# Altium integrated library TI Power Management Switching Regulator Charge Pump (Inductorless).IntLib: 239 symbols (part 1 of 14)
Pins are listed as number, name and electrical type; pins without a type are passive.

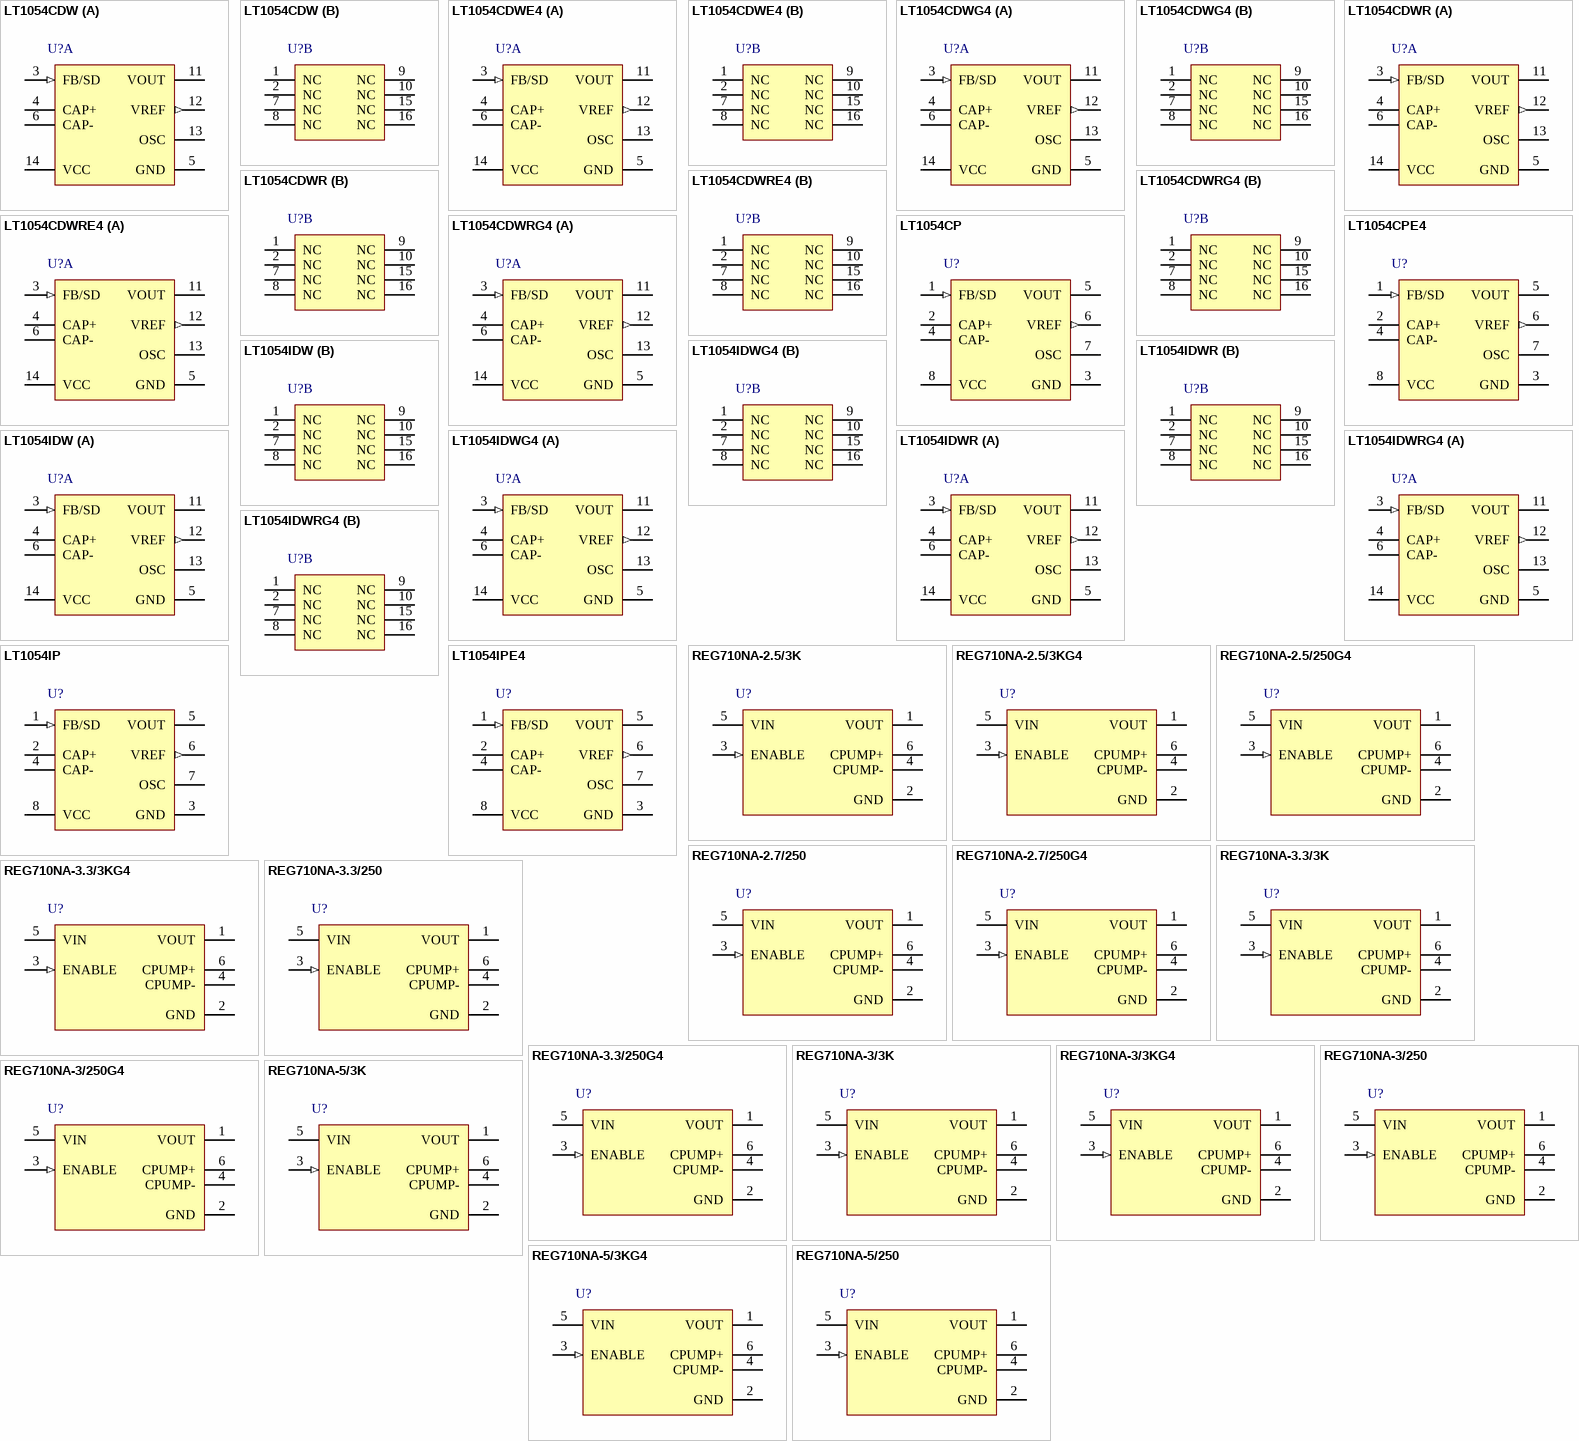
[diagram p0: symbols LT1054CDW to REG710NA-5/250]

## LT1054CDW
designator U?
-5 V, Buck / Boost Charge Pump, 100 mA, 3.5 to 15 V Input, 0 to 70 degC, 16-pin SOIC (DW16), Green (RoHS & no Sb/Br); Manufacturer: Texas Instruments; PartNumber: LT1054CDW; Iout(Max)(A): 0.1; Iq(Typ)(mA): 2.5; Switching Frequency(Max)(kHz): 35; Vin(Max)(V): 15; Vin(Min)(V): 3.5; Vout(Max)(V): -5.2; Vout(Min)(V): -4.7; DatasheetVersion: SLVS033F; PackageVersion: 4040000-2/G; PackageReference: DW16; PackageDescription: 16-Pin Plastic Small Outline, Body 10.30 x 7.50 mm, Pitch 1.27 mm; Supplier 1: Digi-Key; Supplier Part Number 1: 296-9590-5-ND; Supplier 2: Newark; Supplier Part Number 2: 34K7848; Supplier 3: Mouser; Supplier Part Number 3: 595-LT1054CDW; Eco-Plan: Green (RoHS & no Sb/Br); Preset Vout(V): -5; Topology: Buck/Boost; Mounting Technology: Surface Mount; Code_JEDEC: MS-013; ComponentLink1Description: Manufacturer URL; ComponentLink1URL: http://www.ti.com/; ComponentLink2Description: Datasheet; ComponentLink2URL: http://www.ti.com/general/docs/lit/getliterature.tsp?genericPartNumber=LT1054&fileType=pdf; ComponentLink3Description: Package Specification; ComponentLink3URL: http://www.ti.com/litv/pdf/msoi003g
footprint TI-DW16_N (SOIC, 16-Leads, Body 10.3x7.5mm, Pitch 1.27mm, IPC Medium Density)
footprint TI-DW16_L (SOIC, 16-Leads, Body 10.3x7.5mm, Pitch 1.27mm, IPC High Density)
footprint TI-DW16_M (SOIC, 16-Leads, Body 10.3x7.5mm, Pitch 1.27mm, IPC Low Density)
part A pins: 3 FB/SD (in), 4 CAP+, 5 GND (power), 6 CAP-, 11 VOUT (power), 12 VREF (out), 13 OSC, 14 VCC (power)
part B pins: 1 NC, 2 NC, 7 NC, 8 NC, 9 NC, 10 NC, 15 NC, 16 NC

## LT1054CDWE4
designator U?
-5 V, Buck / Boost Charge Pump, 100 mA, 3.5 to 15 V Input, 0 to 70 degC, 16-pin SOIC (DW16), Green (RoHS & no Sb/Br); Manufacturer: Texas Instruments; PartNumber: LT1054CDWE4; Iout(Max)(A): 0.1; Iq(Typ)(mA): 2.5; Switching Frequency(Max)(kHz): 35; Vin(Max)(V): 15; Vin(Min)(V): 3.5; Vout(Max)(V): -5.2; Vout(Min)(V): -4.7; DatasheetVersion: SLVS033F; PackageVersion: 4040000-2/G; PackageReference: DW16; PackageDescription: 16-Pin Plastic Small Outline, Body 10.30 x 7.50 mm, Pitch 1.27 mm; Supplier 1: Digi-Key; Supplier Part Number 1: LT1054CDWE4-ND; Supplier 2: Newark; Supplier Part Number 2: 37K0537; Supplier 3: Mouser; Supplier Part Number 3: 595-LT1054CDWE4; Eco-Plan: Green (RoHS & no Sb/Br); Preset Vout(V): -5; Topology: Buck/Boost; Mounting Technology: Surface Mount; Code_JEDEC: MS-013; ComponentLink1Description: Manufacturer URL; ComponentLink1URL: http://www.ti.com/; ComponentLink2Description: Datasheet; ComponentLink2URL: http://www.ti.com/general/docs/lit/getliterature.tsp?genericPartNumber=LT1054&fileType=pdf; ComponentLink3Description: Package Specification; ComponentLink3URL: http://www.ti.com/litv/pdf/msoi003g
footprint TI-DW16_N (SOIC, 16-Leads, Body 10.3x7.5mm, Pitch 1.27mm, IPC Medium Density)
footprint TI-DW16_L (SOIC, 16-Leads, Body 10.3x7.5mm, Pitch 1.27mm, IPC High Density)
footprint TI-DW16_M (SOIC, 16-Leads, Body 10.3x7.5mm, Pitch 1.27mm, IPC Low Density)
part A pins: 3 FB/SD (in), 4 CAP+, 5 GND (power), 6 CAP-, 11 VOUT (power), 12 VREF (out), 13 OSC, 14 VCC (power)
part B pins: 1 NC, 2 NC, 7 NC, 8 NC, 9 NC, 10 NC, 15 NC, 16 NC

## LT1054CDWG4
designator U?
-5 V, Buck / Boost Charge Pump, 100 mA, 3.5 to 15 V Input, 0 to 70 degC, 16-pin SOIC (DW16), Green (RoHS & no Sb/Br); Manufacturer: Texas Instruments; PartNumber: LT1054CDWG4; Iout(Max)(A): 0.1; Iq(Typ)(mA): 2.5; Switching Frequency(Max)(kHz): 35; Vin(Max)(V): 15; Vin(Min)(V): 3.5; Vout(Max)(V): -5.2; Vout(Min)(V): -4.7; DatasheetVersion: SLVS033F; PackageVersion: 4040000-2/G; PackageReference: DW16; PackageDescription: 16-Pin Plastic Small Outline, Body 10.30 x 7.50 mm, Pitch 1.27 mm; Supplier 1: Digi-Key; Supplier Part Number 1: LT1054CDWG4-ND; Supplier 2: Newark; Supplier Part Number 2: 45M8034; Supplier 3: Mouser; Supplier Part Number 3: 595-LT1054CDWG4; Eco-Plan: Green (RoHS & no Sb/Br); Preset Vout(V): -5; Topology: Buck/Boost; Mounting Technology: Surface Mount; Code_JEDEC: MS-013; ComponentLink1Description: Manufacturer URL; ComponentLink1URL: http://www.ti.com/; ComponentLink2Description: Datasheet; ComponentLink2URL: http://www.ti.com/general/docs/lit/getliterature.tsp?genericPartNumber=LT1054&fileType=pdf; ComponentLink3Description: Package Specification; ComponentLink3URL: http://www.ti.com/litv/pdf/msoi003g
footprint TI-DW16_N (SOIC, 16-Leads, Body 10.3x7.5mm, Pitch 1.27mm, IPC Medium Density)
footprint TI-DW16_L (SOIC, 16-Leads, Body 10.3x7.5mm, Pitch 1.27mm, IPC High Density)
footprint TI-DW16_M (SOIC, 16-Leads, Body 10.3x7.5mm, Pitch 1.27mm, IPC Low Density)
part A pins: 3 FB/SD (in), 4 CAP+, 5 GND (power), 6 CAP-, 11 VOUT (power), 12 VREF (out), 13 OSC, 14 VCC (power)
part B pins: 1 NC, 2 NC, 7 NC, 8 NC, 9 NC, 10 NC, 15 NC, 16 NC

## LT1054CDWR
designator U?
-5 V, Buck / Boost Charge Pump, 100 mA, 3.5 to 15 V Input, 0 to 70 degC, 16-pin SOIC (DW16), Green (RoHS & no Sb/Br); Manufacturer: Texas Instruments; PartNumber: LT1054CDWR; Iout(Max)(A): 0.1; Iq(Typ)(mA): 2.5; Switching Frequency(Max)(kHz): 35; Vin(Max)(V): 15; Vin(Min)(V): 3.5; Vout(Max)(V): -5.2; Vout(Min)(V): -4.7; DatasheetVersion: SLVS033F; PackageVersion: 4040000-2/G; PackageReference: DW16; PackageDescription: 16-Pin Plastic Small Outline, Body 10.30 x 7.50 mm, Pitch 1.27 mm; Supplier 1: Digi-Key; Supplier Part Number 1: 296-14618-2-ND; Supplier 2: Digi-Key; Supplier Part Number 2: 296-14618-1-ND; Supplier 3: Digi-Key; Supplier Part Number 3: 296-14618-6-ND; Supplier 4: Newark; Supplier Part Number 4: 75C0943; Supplier 5: Mouser; Supplier Part Number 5: 595-LT1054CDWR; Eco-Plan: Green (RoHS & no Sb/Br); Preset Vout(V): -5; Topology: Buck/Boost; Mounting Technology: Surface Mount; Code_JEDEC: MS-013; ComponentLink1Description: Manufacturer URL; ComponentLink1URL: http://www.ti.com/; ComponentLink2Description: Datasheet; ComponentLink2URL: http://www.ti.com/general/docs/lit/getliterature.tsp?genericPartNumber=LT1054&fileType=pdf; ComponentLink3Description: Package Specification; ComponentLink3URL: http://www.ti.com/litv/pdf/msoi003g
footprint TI-DW16_N (SOIC, 16-Leads, Body 10.3x7.5mm, Pitch 1.27mm, IPC Medium Density)
footprint TI-DW16_L (SOIC, 16-Leads, Body 10.3x7.5mm, Pitch 1.27mm, IPC High Density)
footprint TI-DW16_M (SOIC, 16-Leads, Body 10.3x7.5mm, Pitch 1.27mm, IPC Low Density)
part A pins: 3 FB/SD (in), 4 CAP+, 5 GND (power), 6 CAP-, 11 VOUT (power), 12 VREF (out), 13 OSC, 14 VCC (power)
part B pins: 1 NC, 2 NC, 7 NC, 8 NC, 9 NC, 10 NC, 15 NC, 16 NC

## LT1054CDWRE4
designator U?
-5 V, Buck / Boost Charge Pump, 100 mA, 3.5 to 15 V Input, 0 to 70 degC, 16-pin SOIC (DW16), Green (RoHS & no Sb/Br); Manufacturer: Texas Instruments; PartNumber: LT1054CDWRE4; Iout(Max)(A): 0.1; Iq(Typ)(mA): 2.5; Switching Frequency(Max)(kHz): 35; Vin(Max)(V): 15; Vin(Min)(V): 3.5; Vout(Max)(V): -5.2; Vout(Min)(V): -4.7; DatasheetVersion: SLVS033F; PackageVersion: 4040000-2/G; PackageReference: DW16; PackageDescription: 16-Pin Plastic Small Outline, Body 10.30 x 7.50 mm, Pitch 1.27 mm; Supplier 1: Digi-Key; Supplier Part Number 1: LT1054CDWRE4-ND; Supplier 2: Newark; Supplier Part Number 2: 37K0538; Supplier 3: Mouser; Supplier Part Number 3: 595-LT1054CDWRE4; Eco-Plan: Green (RoHS & no Sb/Br); Preset Vout(V): -5; Topology: Buck/Boost; Mounting Technology: Surface Mount; Code_JEDEC: MS-013; ComponentLink1Description: Manufacturer URL; ComponentLink1URL: http://www.ti.com/; ComponentLink2Description: Datasheet; ComponentLink2URL: http://www.ti.com/general/docs/lit/getliterature.tsp?genericPartNumber=LT1054&fileType=pdf; ComponentLink3Description: Package Specification; ComponentLink3URL: http://www.ti.com/litv/pdf/msoi003g
footprint TI-DW16_N (SOIC, 16-Leads, Body 10.3x7.5mm, Pitch 1.27mm, IPC Medium Density)
footprint TI-DW16_L (SOIC, 16-Leads, Body 10.3x7.5mm, Pitch 1.27mm, IPC High Density)
footprint TI-DW16_M (SOIC, 16-Leads, Body 10.3x7.5mm, Pitch 1.27mm, IPC Low Density)
part A pins: 3 FB/SD (in), 4 CAP+, 5 GND (power), 6 CAP-, 11 VOUT (power), 12 VREF (out), 13 OSC, 14 VCC (power)
part B pins: 1 NC, 2 NC, 7 NC, 8 NC, 9 NC, 10 NC, 15 NC, 16 NC

## LT1054CDWRG4
designator U?
-5 V, Buck / Boost Charge Pump, 100 mA, 3.5 to 15 V Input, 0 to 70 degC, 16-pin SOIC (DW16), Green (RoHS & no Sb/Br); Manufacturer: Texas Instruments; PartNumber: LT1054CDWRG4; Iout(Max)(A): 0.1; Iq(Typ)(mA): 2.5; Switching Frequency(Max)(kHz): 35; Vin(Max)(V): 15; Vin(Min)(V): 3.5; Vout(Max)(V): -5.2; Vout(Min)(V): -4.7; DatasheetVersion: SLVS033F; PackageVersion: 4040000-2/G; PackageReference: DW16; PackageDescription: 16-Pin Plastic Small Outline, Body 10.30 x 7.50 mm, Pitch 1.27 mm; Supplier 1: Digi-Key; Supplier Part Number 1: LT1054CDWRG4-ND; Supplier 2: Newark; Supplier Part Number 2: 45M8035; Supplier 3: Mouser; Supplier Part Number 3: 595-LT1054CDWRG4; Eco-Plan: Green (RoHS & no Sb/Br); Preset Vout(V): -5; Topology: Buck/Boost; Mounting Technology: Surface Mount; Code_JEDEC: MS-013; ComponentLink1Description: Manufacturer URL; ComponentLink1URL: http://www.ti.com/; ComponentLink2Description: Datasheet; ComponentLink2URL: http://www.ti.com/general/docs/lit/getliterature.tsp?genericPartNumber=LT1054&fileType=pdf; ComponentLink3Description: Package Specification; ComponentLink3URL: http://www.ti.com/litv/pdf/msoi003g
footprint TI-DW16_N (SOIC, 16-Leads, Body 10.3x7.5mm, Pitch 1.27mm, IPC Medium Density)
footprint TI-DW16_L (SOIC, 16-Leads, Body 10.3x7.5mm, Pitch 1.27mm, IPC High Density)
footprint TI-DW16_M (SOIC, 16-Leads, Body 10.3x7.5mm, Pitch 1.27mm, IPC Low Density)
part A pins: 3 FB/SD (in), 4 CAP+, 5 GND (power), 6 CAP-, 11 VOUT (power), 12 VREF (out), 13 OSC, 14 VCC (power)
part B pins: 1 NC, 2 NC, 7 NC, 8 NC, 9 NC, 10 NC, 15 NC, 16 NC

## LT1054CP
designator U?
-5 V, Buck / Boost Charge Pump, 100 mA, 3.5 to 15 V Input, 0 to 70 degC, 8-pin DIP (P8), Pb-Free (RoHS); Manufacturer: Texas Instruments; PartNumber: LT1054CP; Iout(Max)(A): 0.1; Iq(Typ)(mA): 2.5; Switching Frequency(Max)(kHz): 35; Vin(Max)(V): 15; Vin(Min)(V): 3.5; Vout(Max)(V): -5.2; Vout(Min)(V): -4.7; DatasheetVersion: SLVS033F; PackageVersion: 4040082/E; PackageReference: P8; PackageDescription: 8-Pin Plastic In-Line, Body 9.59 x 6.35 mm, 2.54 mm Pitch; Supplier 1: Digi-Key; Supplier Part Number 1: 296-9591-5-ND; Supplier 2: Farnell; Supplier Part Number 2: 1652378; Supplier 3: Newark; Supplier Part Number 3: 60K6196; Supplier 4: Mouser; Supplier Part Number 4: 595-LT1054CP; Eco-Plan: Pb-Free (RoHS); Preset Vout(V): -5; Topology: Buck/Boost; Mounting Technology: Through Hole; Code_JEDEC: MS-001; ComponentLink1Description: Manufacturer URL; ComponentLink1URL: http://www.ti.com/; ComponentLink2Description: Datasheet; ComponentLink2URL: http://www.ti.com/general/docs/lit/getliterature.tsp?genericPartNumber=LT1054&fileType=pdf; ComponentLink3Description: Package Specification; ComponentLink3URL: http://www.ti.com/litv/pdf/mpdi001b
footprint TI-P8 (DIP, 8-Leads, Body 9.59x6.35mm, Pitch 2.54mm)
pins: 1 FB/SD (in), 2 CAP+, 3 GND (power), 4 CAP-, 5 VOUT (power), 6 VREF (out), 7 OSC, 8 VCC (power)

## LT1054CPE4
designator U?
-5 V, Buck / Boost Charge Pump, 100 mA, 3.5 to 15 V Input, 0 to 70 degC, 8-pin DIP (P8), Pb-Free (RoHS); Manufacturer: Texas Instruments; PartNumber: LT1054CPE4; Iout(Max)(A): 0.1; Iq(Typ)(mA): 2.5; Switching Frequency(Max)(kHz): 35; Vin(Max)(V): 15; Vin(Min)(V): 3.5; Vout(Max)(V): -5.2; Vout(Min)(V): -4.7; DatasheetVersion: SLVS033F; PackageVersion: 4040082/E; PackageReference: P8; PackageDescription: 8-Pin Plastic In-Line, Body 9.59 x 6.35 mm, 2.54 mm Pitch; Supplier 1: Digi-Key; Supplier Part Number 1: LT1054CPE4-ND; Supplier 2: Newark; Supplier Part Number 2: 63K5671; Supplier 3: Mouser; Supplier Part Number 3: 595-LT1054CPE4; Eco-Plan: Pb-Free (RoHS); Preset Vout(V): -5; Topology: Buck/Boost; Mounting Technology: Through Hole; Code_JEDEC: MS-001; ComponentLink1Description: Manufacturer URL; ComponentLink1URL: http://www.ti.com/; ComponentLink2Description: Datasheet; ComponentLink2URL: http://www.ti.com/general/docs/lit/getliterature.tsp?genericPartNumber=LT1054&fileType=pdf; ComponentLink3Description: Package Specification; ComponentLink3URL: http://www.ti.com/litv/pdf/mpdi001b
footprint TI-P8 (DIP, 8-Leads, Body 9.59x6.35mm, Pitch 2.54mm)
pins: 1 FB/SD (in), 2 CAP+, 3 GND (power), 4 CAP-, 5 VOUT (power), 6 VREF (out), 7 OSC, 8 VCC (power)

## LT1054IDW
designator U?
-5 V, Buck / Boost Charge Pump, 100 mA, 3.5 to 15 V Input, -40 to 85 degC, 16-pin SOIC (DW16), Green (RoHS & no Sb/Br); Manufacturer: Texas Instruments; PartNumber: LT1054IDW; Iout(Max)(A): 0.1; Iq(Typ)(mA): 2.5; Switching Frequency(Max)(kHz): 35; Vin(Max)(V): 15; Vin(Min)(V): 3.5; Vout(Max)(V): -5.2; Vout(Min)(V): -4.7; DatasheetVersion: SLVS033F; PackageVersion: 4040000-2/G; PackageReference: DW16; PackageDescription: 16-Pin Plastic Small Outline, Body 10.30 x 7.50 mm, Pitch 1.27 mm; Supplier 1: Digi-Key; Supplier Part Number 1: 296-9592-5-ND; Supplier 2: Mouser; Supplier Part Number 2: 595-LT1054IDW; Eco-Plan: Green (RoHS & no Sb/Br); Preset Vout(V): -5; Topology: Buck/Boost; Mounting Technology: Surface Mount; Code_JEDEC: MS-013; ComponentLink1Description: Manufacturer URL; ComponentLink1URL: http://www.ti.com/; ComponentLink2Description: Datasheet; ComponentLink2URL: http://www.ti.com/general/docs/lit/getliterature.tsp?genericPartNumber=LT1054&fileType=pdf; ComponentLink3Description: Package Specification; ComponentLink3URL: http://www.ti.com/litv/pdf/msoi003g
footprint TI-DW16_N (SOIC, 16-Leads, Body 10.3x7.5mm, Pitch 1.27mm, IPC Medium Density)
footprint TI-DW16_L (SOIC, 16-Leads, Body 10.3x7.5mm, Pitch 1.27mm, IPC High Density)
footprint TI-DW16_M (SOIC, 16-Leads, Body 10.3x7.5mm, Pitch 1.27mm, IPC Low Density)
part A pins: 3 FB/SD (in), 4 CAP+, 5 GND (power), 6 CAP-, 11 VOUT (power), 12 VREF (out), 13 OSC, 14 VCC (power)
part B pins: 1 NC, 2 NC, 7 NC, 8 NC, 9 NC, 10 NC, 15 NC, 16 NC

## LT1054IDWG4
designator U?
-5 V, Buck / Boost Charge Pump, 100 mA, 3.5 to 15 V Input, -40 to 85 degC, 16-pin SOIC (DW16), Green (RoHS & no Sb/Br); Manufacturer: Texas Instruments; PartNumber: LT1054IDWG4; Iout(Max)(A): 0.1; Iq(Typ)(mA): 2.5; Switching Frequency(Max)(kHz): 35; Vin(Max)(V): 15; Vin(Min)(V): 3.5; Vout(Max)(V): -5.2; Vout(Min)(V): -4.7; DatasheetVersion: SLVS033F; PackageVersion: 4040000-2/G; PackageReference: DW16; PackageDescription: 16-Pin Plastic Small Outline, Body 10.30 x 7.50 mm, Pitch 1.27 mm; Supplier 1: Digi-Key; Supplier Part Number 1: LT1054IDWG4-ND; Supplier 2: Newark; Supplier Part Number 2: 40K7244; Supplier 3: Mouser; Supplier Part Number 3: 595-LT1054IDWG4; Eco-Plan: Green (RoHS & no Sb/Br); Preset Vout(V): -5; Topology: Buck/Boost; Mounting Technology: Surface Mount; Code_JEDEC: MS-013; ComponentLink1Description: Manufacturer URL; ComponentLink1URL: http://www.ti.com/; ComponentLink2Description: Datasheet; ComponentLink2URL: http://www.ti.com/general/docs/lit/getliterature.tsp?genericPartNumber=LT1054&fileType=pdf; ComponentLink3Description: Package Specification; ComponentLink3URL: http://www.ti.com/litv/pdf/msoi003g
footprint TI-DW16_N (SOIC, 16-Leads, Body 10.3x7.5mm, Pitch 1.27mm, IPC Medium Density)
footprint TI-DW16_L (SOIC, 16-Leads, Body 10.3x7.5mm, Pitch 1.27mm, IPC High Density)
footprint TI-DW16_M (SOIC, 16-Leads, Body 10.3x7.5mm, Pitch 1.27mm, IPC Low Density)
part A pins: 3 FB/SD (in), 4 CAP+, 5 GND (power), 6 CAP-, 11 VOUT (power), 12 VREF (out), 13 OSC, 14 VCC (power)
part B pins: 1 NC, 2 NC, 7 NC, 8 NC, 9 NC, 10 NC, 15 NC, 16 NC

## LT1054IDWR
designator U?
-5 V, Buck / Boost Charge Pump, 100 mA, 3.5 to 15 V Input, -40 to 85 degC, 16-pin SOIC (DW16), Green (RoHS & no Sb/Br); Manufacturer: Texas Instruments; PartNumber: LT1054IDWR; Iout(Max)(A): 0.1; Iq(Typ)(mA): 2.5; Switching Frequency(Max)(kHz): 35; Vin(Max)(V): 15; Vin(Min)(V): 3.5; Vout(Max)(V): -5.2; Vout(Min)(V): -4.7; DatasheetVersion: SLVS033F; PackageVersion: 4040000-2/G; PackageReference: DW16; PackageDescription: 16-Pin Plastic Small Outline, Body 10.30 x 7.50 mm, Pitch 1.27 mm; Supplier 1: Digi-Key; Supplier Part Number 1: 296-17595-2-ND; Supplier 2: Digi-Key; Supplier Part Number 2: 296-17595-1-ND; Supplier 3: Digi-Key; Supplier Part Number 3: 296-17595-6-ND; Supplier 4: Newark; Supplier Part Number 4: 75C0945; Supplier 5: Mouser; Supplier Part Number 5: 595-LT1054IDWR; Eco-Plan: Green (RoHS & no Sb/Br); Preset Vout(V): -5; Topology: Buck/Boost; Mounting Technology: Surface Mount; Code_JEDEC: MS-013; ComponentLink1Description: Manufacturer URL; ComponentLink1URL: http://www.ti.com/; ComponentLink2Description: Datasheet; ComponentLink2URL: http://www.ti.com/general/docs/lit/getliterature.tsp?genericPartNumber=LT1054&fileType=pdf; ComponentLink3Description: Package Specification; ComponentLink3URL: http://www.ti.com/litv/pdf/msoi003g
footprint TI-DW16_N (SOIC, 16-Leads, Body 10.3x7.5mm, Pitch 1.27mm, IPC Medium Density)
footprint TI-DW16_L (SOIC, 16-Leads, Body 10.3x7.5mm, Pitch 1.27mm, IPC High Density)
footprint TI-DW16_M (SOIC, 16-Leads, Body 10.3x7.5mm, Pitch 1.27mm, IPC Low Density)
part A pins: 3 FB/SD (in), 4 CAP+, 5 GND (power), 6 CAP-, 11 VOUT (power), 12 VREF (out), 13 OSC, 14 VCC (power)
part B pins: 1 NC, 2 NC, 7 NC, 8 NC, 9 NC, 10 NC, 15 NC, 16 NC

## LT1054IDWRG4
designator U?
-5 V, Buck / Boost Charge Pump, 100 mA, 3.5 to 15 V Input, -40 to 85 degC, 16-pin SOIC (DW16), Green (RoHS & no Sb/Br); Manufacturer: Texas Instruments; PartNumber: LT1054IDWRG4; Iout(Max)(A): 0.1; Iq(Typ)(mA): 2.5; Switching Frequency(Max)(kHz): 35; Vin(Max)(V): 15; Vin(Min)(V): 3.5; Vout(Max)(V): -5.2; Vout(Min)(V): -4.7; DatasheetVersion: SLVS033F; PackageVersion: 4040000-2/G; PackageReference: DW16; PackageDescription: 16-Pin Plastic Small Outline, Body 10.30 x 7.50 mm, Pitch 1.27 mm; Supplier 1: Digi-Key; Supplier Part Number 1: LT1054IDWRG4-ND; Supplier 2: Newark; Supplier Part Number 2: 40K7245; Supplier 3: Mouser; Supplier Part Number 3: 595-LT1054IDWRG4; Eco-Plan: Green (RoHS & no Sb/Br); Preset Vout(V): -5; Topology: Buck/Boost; Mounting Technology: Surface Mount; Code_JEDEC: MS-013; ComponentLink1Description: Manufacturer URL; ComponentLink1URL: http://www.ti.com/; ComponentLink2Description: Datasheet; ComponentLink2URL: http://www.ti.com/general/docs/lit/getliterature.tsp?genericPartNumber=LT1054&fileType=pdf; ComponentLink3Description: Package Specification; ComponentLink3URL: http://www.ti.com/litv/pdf/msoi003g
footprint TI-DW16_N (SOIC, 16-Leads, Body 10.3x7.5mm, Pitch 1.27mm, IPC Medium Density)
footprint TI-DW16_L (SOIC, 16-Leads, Body 10.3x7.5mm, Pitch 1.27mm, IPC High Density)
footprint TI-DW16_M (SOIC, 16-Leads, Body 10.3x7.5mm, Pitch 1.27mm, IPC Low Density)
part A pins: 3 FB/SD (in), 4 CAP+, 5 GND (power), 6 CAP-, 11 VOUT (power), 12 VREF (out), 13 OSC, 14 VCC (power)
part B pins: 1 NC, 2 NC, 7 NC, 8 NC, 9 NC, 10 NC, 15 NC, 16 NC

## LT1054IP
designator U?
-5 V, Buck / Boost Charge Pump, 100 mA, 3.5 to 15 V Input, -40 to 85 degC, 8-pin DIP (P8), Pb-Free (RoHS); Manufacturer: Texas Instruments; PartNumber: LT1054IP; Iout(Max)(A): 0.1; Iq(Typ)(mA): 2.5; Switching Frequency(Max)(kHz): 35; Vin(Max)(V): 15; Vin(Min)(V): 3.5; Vout(Max)(V): -5.2; Vout(Min)(V): -4.7; DatasheetVersion: SLVS033F; PackageVersion: 4040082/E; PackageReference: P8; PackageDescription: 8-Pin Plastic In-Line, Body 9.59 x 6.35 mm, 2.54 mm Pitch; Supplier 1: Digi-Key; Supplier Part Number 1: 296-17596-5-ND; Supplier 2: Newark; Supplier Part Number 2: 06F9492; Supplier 3: Mouser; Supplier Part Number 3: 595-LT1054IP; Eco-Plan: Pb-Free (RoHS); Preset Vout(V): -5; Topology: Buck/Boost; Mounting Technology: Through Hole; Code_JEDEC: MS-001; ComponentLink1Description: Manufacturer URL; ComponentLink1URL: http://www.ti.com/; ComponentLink2Description: Datasheet; ComponentLink2URL: http://www.ti.com/general/docs/lit/getliterature.tsp?genericPartNumber=LT1054&fileType=pdf; ComponentLink3Description: Package Specification; ComponentLink3URL: http://www.ti.com/litv/pdf/mpdi001b
footprint TI-P8 (DIP, 8-Leads, Body 9.59x6.35mm, Pitch 2.54mm)
pins: 1 FB/SD (in), 2 CAP+, 3 GND (power), 4 CAP-, 5 VOUT (power), 6 VREF (out), 7 OSC, 8 VCC (power)

## LT1054IPE4
designator U?
-5 V, Buck / Boost Charge Pump, 100 mA, 3.5 to 15 V Input, -40 to 85 degC, 8-pin DIP (P8), Pb-Free (RoHS); Manufacturer: Texas Instruments; PartNumber: LT1054IPE4; Iout(Max)(A): 0.1; Iq(Typ)(mA): 2.5; Switching Frequency(Max)(kHz): 35; Vin(Max)(V): 15; Vin(Min)(V): 3.5; Vout(Max)(V): -5.2; Vout(Min)(V): -4.7; DatasheetVersion: SLVS033F; PackageVersion: 4040082/E; PackageReference: P8; PackageDescription: 8-Pin Plastic In-Line, Body 9.59 x 6.35 mm, 2.54 mm Pitch; Supplier 1: Digi-Key; Supplier Part Number 1: LT1054IPE4-ND; Supplier 2: Newark; Supplier Part Number 2: 37K0539; Supplier 3: Mouser; Supplier Part Number 3: 595-LT1054IPE4; Eco-Plan: Pb-Free (RoHS); Preset Vout(V): -5; Topology: Buck/Boost; Mounting Technology: Through Hole; Code_JEDEC: MS-001; ComponentLink1Description: Manufacturer URL; ComponentLink1URL: http://www.ti.com/; ComponentLink2Description: Datasheet; ComponentLink2URL: http://www.ti.com/general/docs/lit/getliterature.tsp?genericPartNumber=LT1054&fileType=pdf; ComponentLink3Description: Package Specification; ComponentLink3URL: http://www.ti.com/litv/pdf/mpdi001b
footprint TI-P8 (DIP, 8-Leads, Body 9.59x6.35mm, Pitch 2.54mm)
pins: 1 FB/SD (in), 2 CAP+, 3 GND (power), 4 CAP-, 5 VOUT (power), 6 VREF (out), 7 OSC, 8 VCC (power)

## REG710NA-2.5/3K
designator U?
2.5 V, Buck / Boost Charge Pump, 30 mA, 1.8 to 5.5 V Input, -40 to 85 degC, 6-pin SOT23 (DBV6); Manufacturer: Texas Instruments; PartNumber: REG710NA-2.5/3K; 2-Cell Alkaline/Nixx Input: TRUE; Eco-Plan: Green (RoHS & no Sb/Br); Efficiency(Typ)(%): 90; Iout(Max)(A): 0.03; Iq(Typ)(mA): 0.065; Preset Vout(V): 2.5; Switching Frequency(Max)(kHz): 1000; Vin(Max)(V): 5.5; Vin(Min)(V): 1.8; Vout(Max)(V): 2.65; Vout(Min)(V): 2.35; DatasheetVersion: SBAS221G; PackageVersion: 4073253-5/K; PackageReference: DBV6; PackageDescription: 6-Pin Plastic Small Outline, Body 1.60 × 2.90 mm, Pitch 0.95 mm; Supplier 1: Digi-Key; Supplier Part Number 1: REG710NA-2.5/3K-ND; Supplier 2: Mouser; Supplier Part Number 2: 595-REG710NA-2.5/3K; Topology: Buck/Boost; Mounting Technology: Surface Mount; Code_JEDEC: MO-178; ComponentLink1Description: Manufacturer URL; ComponentLink1URL: http://www.ti.com/; ComponentLink2Description: Datasheet; ComponentLink2URL: http://www.ti.com/general/docs/lit/getliterature.tsp?genericPartNumber=REG710-25&fileType=pdf; ComponentLink3Description: Package Specification; ComponentLink3URL: http://www.ti.com/litv/pdf/mpds026h
footprint TI-DBV6_N (SOT-23, 6-Leads, Body 2.90x1.60mm, Pitch 0.95mm, IPC Medium Density)
footprint TI-DBV6_L (SOT-23, 6-Leads, Body 2.90x1.60mm, Pitch 0.95mm, IPC High Density)
footprint TI-DBV6_M (SOT-23, 6-Leads, Body 2.90x1.60mm, Pitch 0.95mm, IPC Low Density)
pins: 1 VOUT (power), 2 GND (power), 3 ENABLE (in), 4 CPUMP-, 5 VIN (power), 6 CPUMP+

## REG710NA-2.5/3KG4
designator U?
2.5 V, Buck / Boost Charge Pump, 30 mA, 1.8 to 5.5 V Input, -40 to 85 degC, 6-pin SOT23 (DBV6); Manufacturer: Texas Instruments; PartNumber: REG710NA-2.5/3KG4; 2-Cell Alkaline/Nixx Input: TRUE; Eco-Plan: Green (RoHS & no Sb/Br); Efficiency(Typ)(%): 90; Iout(Max)(A): 0.03; Iq(Typ)(mA): 0.065; Preset Vout(V): 2.5; Switching Frequency(Max)(kHz): 1000; Vin(Max)(V): 5.5; Vin(Min)(V): 1.8; Vout(Max)(V): 2.65; Vout(Min)(V): 2.35; DatasheetVersion: SBAS221G; PackageVersion: 4073253-5/K; PackageReference: DBV6; PackageDescription: 6-Pin Plastic Small Outline, Body 1.60 × 2.90 mm, Pitch 0.95 mm; Supplier 1: Digi-Key; Supplier Part Number 1: REG710NA-2.5/3KG4-ND; Supplier 2: Mouser; Supplier Part Number 2: 595-REG710NA25/3KG4; Topology: Buck/Boost; Mounting Technology: Surface Mount; Code_JEDEC: MO-178; ComponentLink1Description: Manufacturer URL; ComponentLink1URL: http://www.ti.com/; ComponentLink2Description: Datasheet; ComponentLink2URL: http://www.ti.com/general/docs/lit/getliterature.tsp?genericPartNumber=REG710-25&fileType=pdf; ComponentLink3Description: Package Specification; ComponentLink3URL: http://www.ti.com/litv/pdf/mpds026h
footprint TI-DBV6_N (SOT-23, 6-Leads, Body 2.90x1.60mm, Pitch 0.95mm, IPC Medium Density)
footprint TI-DBV6_L (SOT-23, 6-Leads, Body 2.90x1.60mm, Pitch 0.95mm, IPC High Density)
footprint TI-DBV6_M (SOT-23, 6-Leads, Body 2.90x1.60mm, Pitch 0.95mm, IPC Low Density)
pins: 1 VOUT (power), 2 GND (power), 3 ENABLE (in), 4 CPUMP-, 5 VIN (power), 6 CPUMP+

## REG710NA-2.5/250G4
designator U?
2.5 V, Buck / Boost Charge Pump, 30 mA, 1.8 to 5.5 V Input, -40 to 85 degC, 6-pin SOT23 (DBV6), Green (RoHS & no Sb/Br); Manufacturer: Texas Instruments; PartNumber: REG710NA-2.5/250G4; 2-Cell Alkaline/Nixx Input: TRUE; Efficiency(Typ)(%): 90; Iout(Max)(A): 0.03; Iq(Typ)(mA): 0.065; Preset Vout(V): 2.5; Switching Frequency(Max)(kHz): 1000; Vin(Max)(V): 5.5; Vin(Min)(V): 1.8; Vout(Max)(V): 2.65; Vout(Min)(V): 2.35; DatasheetVersion: SBAS221G; PackageVersion: 4073253-5/K; PackageReference: DBV6; PackageDescription: 6-Pin Plastic Small Outline, Body 1.60 × 2.90 mm, Pitch 0.95 mm; Supplier 1: Digi-Key; Supplier Part Number 1: REG710NA-2.5/250G4-ND; Supplier 2: Mouser; Supplier Part Number 2: 595-REG710NA25250G4; Eco-Plan: Green (RoHS & no Sb/Br); Topology: Buck/Boost; Mounting Technology: Surface Mount; Code_JEDEC: MO-178; ComponentLink1Description: Manufacturer URL; ComponentLink1URL: http://www.ti.com/; ComponentLink2Description: Datasheet; ComponentLink2URL: http://www.ti.com/general/docs/lit/getliterature.tsp?genericPartNumber=REG710-25&fileType=pdf; ComponentLink3Description: Package Specification; ComponentLink3URL: http://www.ti.com/litv/pdf/mpds026h
footprint TI-DBV6_N (SOT-23, 6-Leads, Body 2.90x1.60mm, Pitch 0.95mm, IPC Medium Density)
footprint TI-DBV6_L (SOT-23, 6-Leads, Body 2.90x1.60mm, Pitch 0.95mm, IPC High Density)
footprint TI-DBV6_M (SOT-23, 6-Leads, Body 2.90x1.60mm, Pitch 0.95mm, IPC Low Density)
pins: 1 VOUT (power), 2 GND (power), 3 ENABLE (in), 4 CPUMP-, 5 VIN (power), 6 CPUMP+

## REG710NA-2.7/250
designator U?
2.7 V, Buck / Boost Charge Pump, 30 mA, 1.8 to 5.5 V Input, -40 to 85 degC, 6-pin SOT23 (DBV6), Green (RoHS & no Sb/Br); Manufacturer: Texas Instruments; PartNumber: REG710NA-2.7/250; 2-Cell Alkaline/Nixx Input: TRUE; Efficiency(Typ)(%): 90; Iout(Max)(A): 0.03; Iq(Typ)(mA): 0.065; Preset Vout(V): 2.7; Switching Frequency(Max)(kHz): 1000; Vin(Max)(V): 5.5; Vin(Min)(V): 1.8; Vout(Max)(V): 2.86; Vout(Min)(V): 2.54; DatasheetVersion: SBAS221G; PackageVersion: 4073253-5/K; PackageReference: DBV6; PackageDescription: 6-Pin Plastic Small Outline, Body 1.60 × 2.90 mm, Pitch 0.95 mm; Supplier 1: Digi-Key; Supplier Part Number 1: 296-12134-2-ND; Supplier 2: Digi-Key; Supplier Part Number 2: 296-12134-1-ND; Supplier 3: Digi-Key; Supplier Part Number 3: 296-12134-6-ND; Supplier 4: Newark; Supplier Part Number 4: 75C7599; Supplier 5: Mouser; Supplier Part Number 5: 595-REG710NA-2.7/250; Eco-Plan: Green (RoHS & no Sb/Br); Topology: Buck/Boost; Mounting Technology: Surface Mount; Code_JEDEC: MO-178; ComponentLink1Description: Manufacturer URL; ComponentLink1URL: http://www.ti.com/; ComponentLink2Description: Datasheet; ComponentLink2URL: http://www.ti.com/general/docs/lit/getliterature.tsp?genericPartNumber=REG710-27&fileType=pdf; ComponentLink3Description: Package Specification; ComponentLink3URL: http://www.ti.com/litv/pdf/mpds026h
footprint TI-DBV6_N (SOT-23, 6-Leads, Body 2.90x1.60mm, Pitch 0.95mm, IPC Medium Density)
footprint TI-DBV6_L (SOT-23, 6-Leads, Body 2.90x1.60mm, Pitch 0.95mm, IPC High Density)
footprint TI-DBV6_M (SOT-23, 6-Leads, Body 2.90x1.60mm, Pitch 0.95mm, IPC Low Density)
pins: 1 VOUT (power), 2 GND (power), 3 ENABLE (in), 4 CPUMP-, 5 VIN (power), 6 CPUMP+

## REG710NA-2.7/250G4
designator U?
2.7 V, Buck / Boost Charge Pump, 30 mA, 1.8 to 5.5 V Input, -40 to 85 degC, 6-pin SOT23 (DBV6), Green (RoHS & no Sb/Br); Manufacturer: Texas Instruments; PartNumber: REG710NA-2.7/250G4; 2-Cell Alkaline/Nixx Input: TRUE; Efficiency(Typ)(%): 90; Iout(Max)(A): 0.03; Iq(Typ)(mA): 0.065; Preset Vout(V): 2.7; Switching Frequency(Max)(kHz): 1000; Vin(Max)(V): 5.5; Vin(Min)(V): 1.8; Vout(Max)(V): 2.86; Vout(Min)(V): 2.54; DatasheetVersion: SBAS221G; PackageVersion: 4073253-5/K; PackageReference: DBV6; PackageDescription: 6-Pin Plastic Small Outline, Body 1.60 × 2.90 mm, Pitch 0.95 mm; Supplier 1: Digi-Key; Supplier Part Number 1: REG710NA-2.7/250G4-ND; Supplier 2: Newark; Supplier Part Number 2: 14M2189; Supplier 3: Mouser; Supplier Part Number 3: 595-REG710NA27250G4; Eco-Plan: Green (RoHS & no Sb/Br); Topology: Buck/Boost; Mounting Technology: Surface Mount; Code_JEDEC: MO-178; ComponentLink1Description: Manufacturer URL; ComponentLink1URL: http://www.ti.com/; ComponentLink2Description: Datasheet; ComponentLink2URL: http://www.ti.com/general/docs/lit/getliterature.tsp?genericPartNumber=REG710-27&fileType=pdf; ComponentLink3Description: Package Specification; ComponentLink3URL: http://www.ti.com/litv/pdf/mpds026h
footprint TI-DBV6_N (SOT-23, 6-Leads, Body 2.90x1.60mm, Pitch 0.95mm, IPC Medium Density)
footprint TI-DBV6_L (SOT-23, 6-Leads, Body 2.90x1.60mm, Pitch 0.95mm, IPC High Density)
footprint TI-DBV6_M (SOT-23, 6-Leads, Body 2.90x1.60mm, Pitch 0.95mm, IPC Low Density)
pins: 1 VOUT (power), 2 GND (power), 3 ENABLE (in), 4 CPUMP-, 5 VIN (power), 6 CPUMP+

## REG710NA-3.3/3K
designator U?
3.3 V, Buck / Boost Charge Pump, 30 mA, 1.8 to 5.5 V Input, -40 to 85 degC, 6-pin SOT23 (DBV6), Green (RoHS & no Sb/Br); Manufacturer: Texas Instruments; PartNumber: REG710NA-3.3/3K; 2-Cell Alkaline/Nixx Input: TRUE; Efficiency(Typ)(%): 90; Iout(Max)(A): 0.03; Iq(Typ)(mA): 0.065; Preset Vout(V): 3.3; Switching Frequency(Max)(kHz): 1000; Vin(Max)(V): 5.5; Vin(Min)(V): 1.8; Vout(Max)(V): 3.5; Vout(Min)(V): 3.1; DatasheetVersion: SBAS221G; PackageVersion: 4073253-5/K; PackageReference: DBV6; PackageDescription: 6-Pin Plastic Small Outline, Body 1.60 × 2.90 mm, Pitch 0.95 mm; Supplier 1: Digi-Key; Supplier Part Number 1: REG710NA-3.3/3K-ND; Supplier 2: Newark; Supplier Part Number 2: 75C7601; Supplier 3: Mouser; Supplier Part Number 3: 595-REG710NA-3.3/3K; Eco-Plan: Green (RoHS & no Sb/Br); Topology: Buck/Boost; Mounting Technology: Surface Mount; Code_JEDEC: MO-178; ComponentLink1Description: Manufacturer URL; ComponentLink1URL: http://www.ti.com/; ComponentLink2Description: Datasheet; ComponentLink2URL: http://www.ti.com/general/docs/lit/getliterature.tsp?genericPartNumber=REG710-33&fileType=pdf; ComponentLink3Description: Package Specification; ComponentLink3URL: http://www.ti.com/litv/pdf/mpds026h
footprint TI-DBV6_N (SOT-23, 6-Leads, Body 2.90x1.60mm, Pitch 0.95mm, IPC Medium Density)
footprint TI-DBV6_L (SOT-23, 6-Leads, Body 2.90x1.60mm, Pitch 0.95mm, IPC High Density)
footprint TI-DBV6_M (SOT-23, 6-Leads, Body 2.90x1.60mm, Pitch 0.95mm, IPC Low Density)
pins: 1 VOUT (power), 2 GND (power), 3 ENABLE (in), 4 CPUMP-, 5 VIN (power), 6 CPUMP+

## REG710NA-3.3/3KG4
designator U?
3.3 V, Buck / Boost Charge Pump, 30 mA, 1.8 to 5.5 V Input, -40 to 85 degC, 6-pin SOT23 (DBV6), Green (RoHS & no Sb/Br); Manufacturer: Texas Instruments; PartNumber: REG710NA-3.3/3KG4; 2-Cell Alkaline/Nixx Input: TRUE; Efficiency(Typ)(%): 90; Iout(Max)(A): 0.03; Iq(Typ)(mA): 0.065; Preset Vout(V): 3.3; Switching Frequency(Max)(kHz): 1000; Vin(Max)(V): 5.5; Vin(Min)(V): 1.8; Vout(Max)(V): 3.5; Vout(Min)(V): 3.1; DatasheetVersion: SBAS221G; PackageVersion: 4073253-5/K; PackageReference: DBV6; PackageDescription: 6-Pin Plastic Small Outline, Body 1.60 × 2.90 mm, Pitch 0.95 mm; Supplier 1: Digi-Key; Supplier Part Number 1: REG710NA-3.3/3KG4-ND; Supplier 2: Newark; Supplier Part Number 2: 06K3460; Supplier 3: Mouser; Supplier Part Number 3: 595-REG710NA33/3KG4; Eco-Plan: Green (RoHS & no Sb/Br); Topology: Buck/Boost; Mounting Technology: Surface Mount; Code_JEDEC: MO-178; ComponentLink1Description: Manufacturer URL; ComponentLink1URL: http://www.ti.com/; ComponentLink2Description: Datasheet; ComponentLink2URL: http://www.ti.com/general/docs/lit/getliterature.tsp?genericPartNumber=REG710-33&fileType=pdf; ComponentLink3Description: Package Specification; ComponentLink3URL: http://www.ti.com/litv/pdf/mpds026h
footprint TI-DBV6_N (SOT-23, 6-Leads, Body 2.90x1.60mm, Pitch 0.95mm, IPC Medium Density)
footprint TI-DBV6_L (SOT-23, 6-Leads, Body 2.90x1.60mm, Pitch 0.95mm, IPC High Density)
footprint TI-DBV6_M (SOT-23, 6-Leads, Body 2.90x1.60mm, Pitch 0.95mm, IPC Low Density)
pins: 1 VOUT (power), 2 GND (power), 3 ENABLE (in), 4 CPUMP-, 5 VIN (power), 6 CPUMP+

## REG710NA-3.3/250
designator U?
3.3 V, Buck / Boost Charge Pump, 30 mA, 1.8 to 5.5 V Input, -40 to 85 degC, 6-pin SOT23 (DBV6), Green (RoHS & no Sb/Br); Manufacturer: Texas Instruments; PartNumber: REG710NA-3.3/250; 2-Cell Alkaline/Nixx Input: TRUE; Efficiency(Typ)(%): 90; Iout(Max)(A): 0.03; Iq(Typ)(mA): 0.065; Preset Vout(V): 3.3; Switching Frequency(Max)(kHz): 1000; Vin(Max)(V): 5.5; Vin(Min)(V): 1.8; Vout(Max)(V): 3.5; Vout(Min)(V): 3.1; DatasheetVersion: SBAS221G; PackageVersion: 4073253-5/K; PackageReference: DBV6; PackageDescription: 6-Pin Plastic Small Outline, Body 1.60 × 2.90 mm, Pitch 0.95 mm; Supplier 1: Digi-Key; Supplier Part Number 1: 296-12135-2-ND; Supplier 2: Digi-Key; Supplier Part Number 2: 296-12135-1-ND; Supplier 3: Digi-Key; Supplier Part Number 3: 296-12135-6-ND; Supplier 4: Farnell; Supplier Part Number 4: 1535743; Supplier 5: Newark; Supplier Part Number 5: 75C7600; Supplier 6: Mouser; Supplier Part Number 6: 595-REG710NA-3.3/250; Eco-Plan: Green (RoHS & no Sb/Br); Topology: Buck/Boost; Mounting Technology: Surface Mount; Code_JEDEC: MO-178; ComponentLink1Description: Manufacturer URL; ComponentLink1URL: http://www.ti.com/; ComponentLink2Description: Datasheet; ComponentLink2URL: http://www.ti.com/general/docs/lit/getliterature.tsp?genericPartNumber=REG710-33&fileType=pdf; ComponentLink3Description: Package Specification; ComponentLink3URL: http://www.ti.com/litv/pdf/mpds026h
footprint TI-DBV6_N (SOT-23, 6-Leads, Body 2.90x1.60mm, Pitch 0.95mm, IPC Medium Density)
footprint TI-DBV6_L (SOT-23, 6-Leads, Body 2.90x1.60mm, Pitch 0.95mm, IPC High Density)
footprint TI-DBV6_M (SOT-23, 6-Leads, Body 2.90x1.60mm, Pitch 0.95mm, IPC Low Density)
pins: 1 VOUT (power), 2 GND (power), 3 ENABLE (in), 4 CPUMP-, 5 VIN (power), 6 CPUMP+

## REG710NA-3.3/250G4
designator U?
3.3 V, Buck / Boost Charge Pump, 30 mA, 1.8 to 5.5 V Input, -40 to 85 degC, 6-pin SOT23 (DBV6), Green (RoHS & no Sb/Br); Manufacturer: Texas Instruments; PartNumber: REG710NA-3.3/250G4; 2-Cell Alkaline/Nixx Input: TRUE; Efficiency(Typ)(%): 90; Iout(Max)(A): 0.03; Iq(Typ)(mA): 0.065; Preset Vout(V): 3.3; Switching Frequency(Max)(kHz): 1000; Vin(Max)(V): 5.5; Vin(Min)(V): 1.8; Vout(Max)(V): 3.5; Vout(Min)(V): 3.1; DatasheetVersion: SBAS221G; PackageVersion: 4073253-5/K; PackageReference: DBV6; PackageDescription: 6-Pin Plastic Small Outline, Body 1.60 × 2.90 mm, Pitch 0.95 mm; Supplier 1: Digi-Key; Supplier Part Number 1: REG710NA-3.3/250G4-ND; Supplier 2: Farnell; Supplier Part Number 2: 1207264; Supplier 3: Farnell; Supplier Part Number 3: 1207264RL; Supplier 4: Newark; Supplier Part Number 4: 61M8516; Supplier 5: Mouser; Supplier Part Number 5: 595-REG710NA-33250G4; Eco-Plan: Green (RoHS & no Sb/Br); Topology: Buck/Boost; Mounting Technology: Surface Mount; Code_JEDEC: MO-178; ComponentLink1Description: Manufacturer URL; ComponentLink1URL: http://www.ti.com/; ComponentLink2Description: Datasheet; ComponentLink2URL: http://www.ti.com/general/docs/lit/getliterature.tsp?genericPartNumber=REG710-33&fileType=pdf; ComponentLink3Description: Package Specification; ComponentLink3URL: http://www.ti.com/litv/pdf/mpds026h
footprint TI-DBV6_N (SOT-23, 6-Leads, Body 2.90x1.60mm, Pitch 0.95mm, IPC Medium Density)
footprint TI-DBV6_L (SOT-23, 6-Leads, Body 2.90x1.60mm, Pitch 0.95mm, IPC High Density)
footprint TI-DBV6_M (SOT-23, 6-Leads, Body 2.90x1.60mm, Pitch 0.95mm, IPC Low Density)
pins: 1 VOUT (power), 2 GND (power), 3 ENABLE (in), 4 CPUMP-, 5 VIN (power), 6 CPUMP+

## REG710NA-3/3K
designator U?
3 V, Buck/Boost Charge Pump, 30 mA, 1.8 to 5.5 V Input, -40 to 85 degC, 6-pin SOT23 (DBV6), Green (RoHS & no Sb/Br); Manufacturer: Texas Instruments; PartNumber: REG710NA-3/3K; 2-Cell Alkaline/Nixx Input: TRUE; Efficiency(Typ)(%): 90; Iout(Max)(A): 0.03; Iq(Typ)(mA): 0.065; Preset Vout(V): 3; Switching Frequency(Max)(kHz): 1000; Vin(Max)(V): 5.5; Vin(Min)(V): 1.8; Vout(Max)(V): 3.18; Vout(Min)(V): 2.82; DatasheetVersion: SBAS221G; PackageVersion: 4073253-5/K; PackageReference: DBV6; PackageDescription: 6-Pin Plastic Small Outline, Body 1.60 × 2.90 mm, Pitch 0.95 mm; Supplier 1: Digi-Key; Supplier Part Number 1: REG710NA-3/3K-ND; Supplier 2: Mouser; Supplier Part Number 2: 595-REG710NA-3/3K; Eco-Plan: Green (RoHS & no Sb/Br); Topology: Buck/Boost; Mounting Technology: Surface Mount; Code_JEDEC: MO-178; ComponentLink1Description: Manufacturer URL; ComponentLink1URL: http://www.ti.com/; ComponentLink2Description: Datasheet; ComponentLink2URL: http://www.ti.com/general/docs/lit/getliterature.tsp?genericPartNumber=REG710-3&fileType=pdf; ComponentLink3Description: Package Specification; ComponentLink3URL: http://www.ti.com/litv/pdf/mpds026h
footprint TI-DBV6_N (SOT-23, 6-Leads, Body 2.90x1.60mm, Pitch 0.95mm, IPC Medium Density)
footprint TI-DBV6_L (SOT-23, 6-Leads, Body 2.90x1.60mm, Pitch 0.95mm, IPC High Density)
footprint TI-DBV6_M (SOT-23, 6-Leads, Body 2.90x1.60mm, Pitch 0.95mm, IPC Low Density)
pins: 1 VOUT (power), 2 GND (power), 3 ENABLE (in), 4 CPUMP-, 5 VIN (power), 6 CPUMP+

## REG710NA-3/3KG4
designator U?
3 V, Buck/Boost Charge Pump, 30 mA, 1.8 to 5.5 V Input, -40 to 85 degC, 6-pin SOT23 (DBV6), Green (RoHS & no Sb/Br); Manufacturer: Texas Instruments; PartNumber: REG710NA-3/3KG4; 2-Cell Alkaline/Nixx Input: TRUE; Efficiency(Typ)(%): 90; Iout(Max)(A): 0.03; Iq(Typ)(mA): 0.065; Preset Vout(V): 3; Switching Frequency(Max)(kHz): 1000; Vin(Max)(V): 5.5; Vin(Min)(V): 1.8; Vout(Max)(V): 3.18; Vout(Min)(V): 2.82; DatasheetVersion: SBAS221G; PackageVersion: 4073253-5/K; PackageReference: DBV6; PackageDescription: 6-Pin Plastic Small Outline, Body 1.60 × 2.90 mm, Pitch 0.95 mm; Supplier 1: Digi-Key; Supplier Part Number 1: REG710NA-3/3KG4-ND; Supplier 2: Mouser; Supplier Part Number 2: 595-REG710NA-3/3KG4; Eco-Plan: Green (RoHS & no Sb/Br); Topology: Buck/Boost; Mounting Technology: Surface Mount; Code_JEDEC: MO-178; ComponentLink1Description: Manufacturer URL; ComponentLink1URL: http://www.ti.com/; ComponentLink2Description: Datasheet; ComponentLink2URL: http://www.ti.com/general/docs/lit/getliterature.tsp?genericPartNumber=REG710-3&fileType=pdf; ComponentLink3Description: Package Specification; ComponentLink3URL: http://www.ti.com/litv/pdf/mpds026h
footprint TI-DBV6_N (SOT-23, 6-Leads, Body 2.90x1.60mm, Pitch 0.95mm, IPC Medium Density)
footprint TI-DBV6_L (SOT-23, 6-Leads, Body 2.90x1.60mm, Pitch 0.95mm, IPC High Density)
footprint TI-DBV6_M (SOT-23, 6-Leads, Body 2.90x1.60mm, Pitch 0.95mm, IPC Low Density)
pins: 1 VOUT (power), 2 GND (power), 3 ENABLE (in), 4 CPUMP-, 5 VIN (power), 6 CPUMP+

## REG710NA-3/250
designator U?
3 V, Buck/Boost Charge Pump, 30 mA, 1.8 to 5.5 V Input, -40 to 85 degC, 6-pin SOT23 (DBV6), Green (RoHS & no Sb/Br); Manufacturer: Texas Instruments; PartNumber: REG710NA-3/250; 2-Cell Alkaline/Nixx Input: TRUE; Efficiency(Typ)(%): 90; Iout(Max)(A): 0.03; Iq(Typ)(mA): 0.065; Preset Vout(V): 3; Switching Frequency(Max)(kHz): 1000; Vin(Max)(V): 5.5; Vin(Min)(V): 1.8; Vout(Max)(V): 3.18; Vout(Min)(V): 2.82; DatasheetVersion: SBAS221G; PackageVersion: 4073253-5/K; PackageReference: DBV6; PackageDescription: 6-Pin Plastic Small Outline, Body 1.60 × 2.90 mm, Pitch 0.95 mm; Supplier 1: Digi-Key; Supplier Part Number 1: 296-12136-2-ND; Supplier 2: Digi-Key; Supplier Part Number 2: 296-12136-1-ND; Supplier 3: Digi-Key; Supplier Part Number 3: 296-12136-6-ND; Supplier 4: Newark; Supplier Part Number 4: 75C7602; Supplier 5: Mouser; Supplier Part Number 5: 595-REG710NA-3/250; Eco-Plan: Green (RoHS & no Sb/Br); Topology: Buck/Boost; Mounting Technology: Surface Mount; Code_JEDEC: MO-178; ComponentLink1Description: Manufacturer URL; ComponentLink1URL: http://www.ti.com/; ComponentLink2Description: Datasheet; ComponentLink2URL: http://www.ti.com/general/docs/lit/getliterature.tsp?genericPartNumber=REG710-3&fileType=pdf; ComponentLink3Description: Package Specification; ComponentLink3URL: http://www.ti.com/litv/pdf/mpds026h
footprint TI-DBV6_N (SOT-23, 6-Leads, Body 2.90x1.60mm, Pitch 0.95mm, IPC Medium Density)
footprint TI-DBV6_L (SOT-23, 6-Leads, Body 2.90x1.60mm, Pitch 0.95mm, IPC High Density)
footprint TI-DBV6_M (SOT-23, 6-Leads, Body 2.90x1.60mm, Pitch 0.95mm, IPC Low Density)
pins: 1 VOUT (power), 2 GND (power), 3 ENABLE (in), 4 CPUMP-, 5 VIN (power), 6 CPUMP+

## REG710NA-3/250G4
designator U?
3 V, Buck/Boost Charge Pump, 30 mA, 1.8 to 5.5 V Input, -40 to 85 degC, 6-pin SOT23 (DBV6), Green (RoHS & no Sb/Br); Manufacturer: Texas Instruments; PartNumber: REG710NA-3/250G4; 2-Cell Alkaline/Nixx Input: TRUE; Efficiency(Typ)(%): 90; Iout(Max)(A): 0.03; Iq(Typ)(mA): 0.065; Preset Vout(V): 3; Switching Frequency(Max)(kHz): 1000; Vin(Max)(V): 5.5; Vin(Min)(V): 1.8; Vout(Max)(V): 3.18; Vout(Min)(V): 2.82; DatasheetVersion: SBAS221G; PackageVersion: 4073253-5/K; PackageReference: DBV6; PackageDescription: 6-Pin Plastic Small Outline, Body 1.60 × 2.90 mm, Pitch 0.95 mm; Supplier 1: Digi-Key; Supplier Part Number 1: REG710NA-3/250G4-ND; Supplier 2: Mouser; Supplier Part Number 2: 595-REG710NA-3/250G4; Eco-Plan: Green (RoHS & no Sb/Br); Topology: Buck/Boost; Mounting Technology: Surface Mount; Code_JEDEC: MO-178; ComponentLink1Description: Manufacturer URL; ComponentLink1URL: http://www.ti.com/; ComponentLink2Description: Datasheet; ComponentLink2URL: http://www.ti.com/general/docs/lit/getliterature.tsp?genericPartNumber=REG710-3&fileType=pdf; ComponentLink3Description: Package Specification; ComponentLink3URL: http://www.ti.com/litv/pdf/mpds026h
footprint TI-DBV6_N (SOT-23, 6-Leads, Body 2.90x1.60mm, Pitch 0.95mm, IPC Medium Density)
footprint TI-DBV6_L (SOT-23, 6-Leads, Body 2.90x1.60mm, Pitch 0.95mm, IPC High Density)
footprint TI-DBV6_M (SOT-23, 6-Leads, Body 2.90x1.60mm, Pitch 0.95mm, IPC Low Density)
pins: 1 VOUT (power), 2 GND (power), 3 ENABLE (in), 4 CPUMP-, 5 VIN (power), 6 CPUMP+

## REG710NA-5/3K
designator U?
5 V, Buck / Boost Charge Pump, 30 mA, 2.7 to 5.5 V Input, -40 to 85 degC, 6-pin SOT23 (DBV6), Green (RoHS & no Sb/Br); Manufacturer: Texas Instruments; PartNumber: REG710NA-5/3K; 2-Cell Alkaline/Nixx Input: TRUE; Efficiency(Typ)(%): 90; Iout(Max)(A): 0.03; Iq(Typ)(mA): 0.065; Preset Vout(V): 5; Switching Frequency(Max)(kHz): 1000; Vin(Max)(V): 5.5; Vin(Min)(V): 2.7; Vout(Max)(V): 5.3; Vout(Min)(V): 4.7; DatasheetVersion: SBAS221G; PackageVersion: 4073253-5/K; PackageReference: DBV6; PackageDescription: 6-Pin Plastic Small Outline, Body 1.60 × 2.90 mm, Pitch 0.95 mm; Supplier 1: Digi-Key; Supplier Part Number 1: 296-26327-2-ND; Supplier 2: Digi-Key; Supplier Part Number 2: 296-26327-1-ND; Supplier 3: Digi-Key; Supplier Part Number 3: 296-26327-6-ND; Supplier 4: Newark; Supplier Part Number 4: 75C7605; Supplier 5: Mouser; Supplier Part Number 5: 595-REG710NA-5/3K; Eco-Plan: Green (RoHS & no Sb/Br); Topology: Buck/Boost; Mounting Technology: Surface Mount; Code_JEDEC: MO-178; ComponentLink1Description: Manufacturer URL; ComponentLink1URL: http://www.ti.com/; ComponentLink2Description: Datasheet; ComponentLink2URL: http://www.ti.com/general/docs/lit/getliterature.tsp?genericPartNumber=REG710-5&fileType=pdf; ComponentLink3Description: Package Specification; ComponentLink3URL: http://www.ti.com/litv/pdf/mpds026h
footprint TI-DBV6_N (SOT-23, 6-Leads, Body 2.90x1.60mm, Pitch 0.95mm, IPC Medium Density)
footprint TI-DBV6_L (SOT-23, 6-Leads, Body 2.90x1.60mm, Pitch 0.95mm, IPC High Density)
footprint TI-DBV6_M (SOT-23, 6-Leads, Body 2.90x1.60mm, Pitch 0.95mm, IPC Low Density)
pins: 1 VOUT (power), 2 GND (power), 3 ENABLE (in), 4 CPUMP-, 5 VIN (power), 6 CPUMP+

## REG710NA-5/3KG4
designator U?
5 V, Buck / Boost Charge Pump, 30 mA, 2.7 to 5.5 V Input, -40 to 85 degC, 6-pin SOT23 (DBV6), Green (RoHS & no Sb/Br); Manufacturer: Texas Instruments; PartNumber: REG710NA-5/3KG4; 2-Cell Alkaline/Nixx Input: TRUE; Efficiency(Typ)(%): 90; Iout(Max)(A): 0.03; Iq(Typ)(mA): 0.065; Preset Vout(V): 5; Switching Frequency(Max)(kHz): 1000; Vin(Max)(V): 5.5; Vin(Min)(V): 2.7; Vout(Max)(V): 5.3; Vout(Min)(V): 4.7; DatasheetVersion: SBAS221G; PackageVersion: 4073253-5/K; PackageReference: DBV6; PackageDescription: 6-Pin Plastic Small Outline, Body 1.60 × 2.90 mm, Pitch 0.95 mm; Supplier 1: Digi-Key; Supplier Part Number 1: REG710NA-5/3KG4-ND; Supplier 2: Mouser; Supplier Part Number 2: 595-REG710NA-5/3KG4; Eco-Plan: Green (RoHS & no Sb/Br); Topology: Buck/Boost; Mounting Technology: Surface Mount; Code_JEDEC: MO-178; ComponentLink1Description: Manufacturer URL; ComponentLink1URL: http://www.ti.com/; ComponentLink2Description: Datasheet; ComponentLink2URL: http://www.ti.com/general/docs/lit/getliterature.tsp?genericPartNumber=REG710-5&fileType=pdf; ComponentLink3Description: Package Specification; ComponentLink3URL: http://www.ti.com/litv/pdf/mpds026h
footprint TI-DBV6_N (SOT-23, 6-Leads, Body 2.90x1.60mm, Pitch 0.95mm, IPC Medium Density)
footprint TI-DBV6_L (SOT-23, 6-Leads, Body 2.90x1.60mm, Pitch 0.95mm, IPC High Density)
footprint TI-DBV6_M (SOT-23, 6-Leads, Body 2.90x1.60mm, Pitch 0.95mm, IPC Low Density)
pins: 1 VOUT (power), 2 GND (power), 3 ENABLE (in), 4 CPUMP-, 5 VIN (power), 6 CPUMP+

## REG710NA-5/250
designator U?
5 V, Buck / Boost Charge Pump, 30 mA, 2.7 to 5.5 V Input, -40 to 85 degC, 6-pin SOT23 (DBV6), Green (RoHS & no Sb/Br); Manufacturer: Texas Instruments; PartNumber: REG710NA-5/250; 2-Cell Alkaline/Nixx Input: TRUE; Efficiency(Typ)(%): 90; Iout(Max)(A): 0.03; Iq(Typ)(mA): 0.065; Preset Vout(V): 5; Switching Frequency(Max)(kHz): 1000; Vin(Max)(V): 5.5; Vin(Min)(V): 2.7; Vout(Max)(V): 5.3; Vout(Min)(V): 4.7; DatasheetVersion: SBAS221G; PackageVersion: 4073253-5/K; PackageReference: DBV6; PackageDescription: 6-Pin Plastic Small Outline, Body 1.60 × 2.90 mm, Pitch 0.95 mm; Supplier 1: Digi-Key; Supplier Part Number 1: 296-12137-2-ND; Supplier 2: Digi-Key; Supplier Part Number 2: 296-12137-1-ND; Supplier 3: Digi-Key; Supplier Part Number 3: 296-12137-6-ND; Supplier 4: Newark; Supplier Part Number 4: 75C7604; Supplier 5: Mouser; Supplier Part Number 5: 595-REG710NA-5/250; Eco-Plan: Green (RoHS & no Sb/Br); Topology: Buck/Boost; Mounting Technology: Surface Mount; Code_JEDEC: MO-178; ComponentLink1Description: Manufacturer URL; ComponentLink1URL: http://www.ti.com/; ComponentLink2Description: Datasheet; ComponentLink2URL: http://www.ti.com/general/docs/lit/getliterature.tsp?genericPartNumber=REG710-5&fileType=pdf; ComponentLink3Description: Package Specification; ComponentLink3URL: http://www.ti.com/litv/pdf/mpds026h
footprint TI-DBV6_N (SOT-23, 6-Leads, Body 2.90x1.60mm, Pitch 0.95mm, IPC Medium Density)
footprint TI-DBV6_L (SOT-23, 6-Leads, Body 2.90x1.60mm, Pitch 0.95mm, IPC High Density)
footprint TI-DBV6_M (SOT-23, 6-Leads, Body 2.90x1.60mm, Pitch 0.95mm, IPC Low Density)
pins: 1 VOUT (power), 2 GND (power), 3 ENABLE (in), 4 CPUMP-, 5 VIN (power), 6 CPUMP+

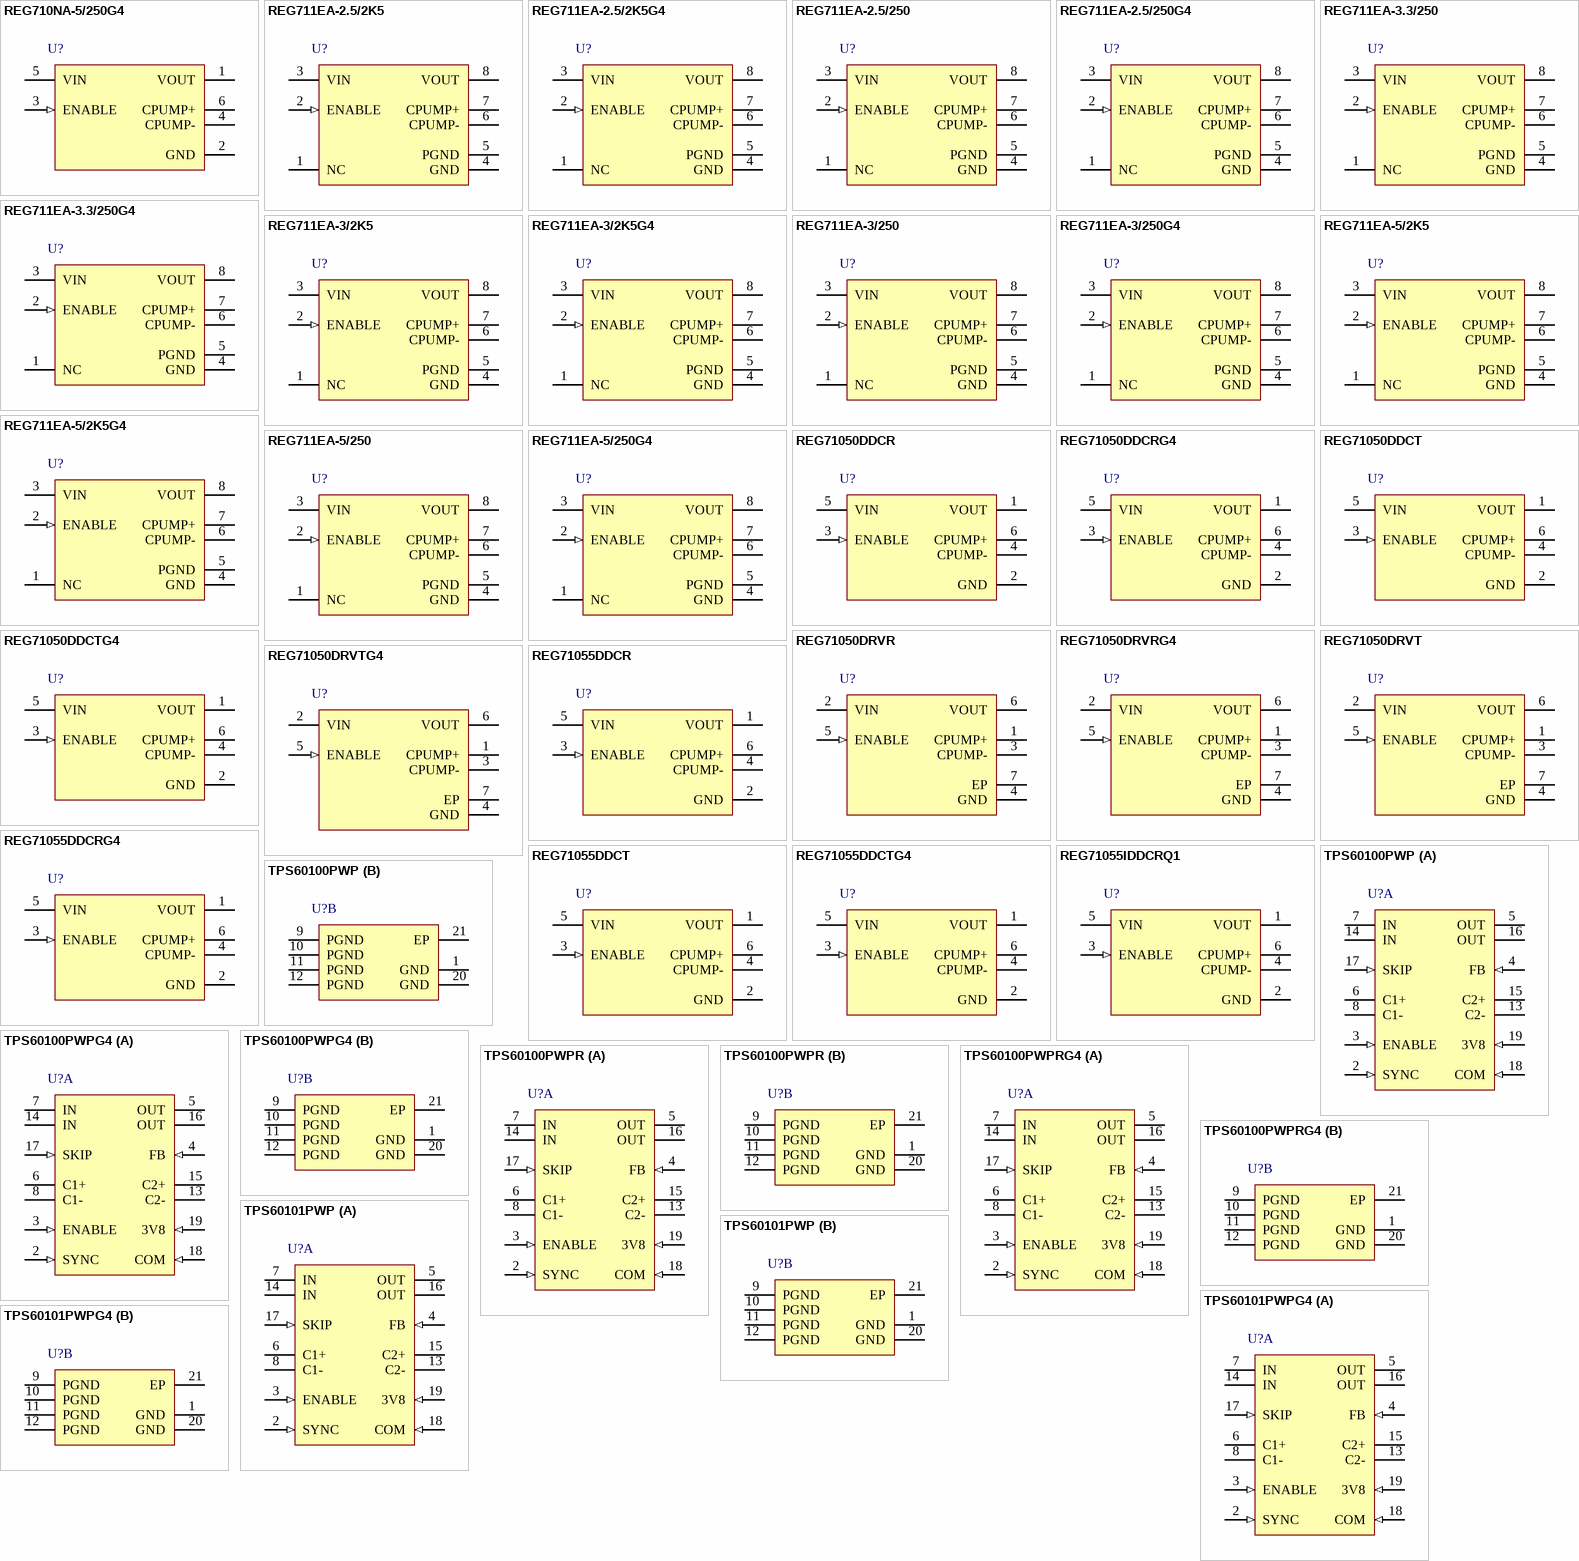
[diagram p1: symbols REG710NA-5/250G4 to TPS60101PWPG4]

## REG710NA-5/250G4
designator U?
5 V, Buck / Boost Charge Pump, 30 mA, 2.7 to 5.5 V Input, -40 to 85 degC, 6-pin SOT23 (DBV6), Green (RoHS & no Sb/Br); Manufacturer: Texas Instruments; PartNumber: REG710NA-5/250G4; 2-Cell Alkaline/Nixx Input: TRUE; Efficiency(Typ)(%): 90; Iout(Max)(A): 0.03; Iq(Typ)(mA): 0.065; Preset Vout(V): 5; Switching Frequency(Max)(kHz): 1000; Vin(Max)(V): 5.5; Vin(Min)(V): 2.7; Vout(Max)(V): 5.3; Vout(Min)(V): 4.7; DatasheetVersion: SBAS221G; PackageVersion: 4073253-5/K; PackageReference: DBV6; PackageDescription: 6-Pin Plastic Small Outline, Body 1.60 × 2.90 mm, Pitch 0.95 mm; Supplier 1: Digi-Key; Supplier Part Number 1: REG710NA-5/250G4-ND; Supplier 2: Farnell; Supplier Part Number 2: 1207265; Supplier 3: Farnell; Supplier Part Number 3: 1207265RL; Supplier 4: Newark; Supplier Part Number 4: 61M8517; Supplier 5: Newark; Supplier Part Number 5: 33K5405; Supplier 6: Mouser; Supplier Part Number 6: 595-REG710NA-5/250G4; Eco-Plan: Green (RoHS & no Sb/Br); Topology: Buck/Boost; Mounting Technology: Surface Mount; Code_JEDEC: MO-178; ComponentLink1Description: Manufacturer URL; ComponentLink1URL: http://www.ti.com/; ComponentLink2Description: Datasheet; ComponentLink2URL: http://www.ti.com/general/docs/lit/getliterature.tsp?genericPartNumber=REG710-5&fileType=pdf; ComponentLink3Description: Package Specification; ComponentLink3URL: http://www.ti.com/litv/pdf/mpds026h
footprint TI-DBV6_N (SOT-23, 6-Leads, Body 2.90x1.60mm, Pitch 0.95mm, IPC Medium Density)
footprint TI-DBV6_L (SOT-23, 6-Leads, Body 2.90x1.60mm, Pitch 0.95mm, IPC High Density)
footprint TI-DBV6_M (SOT-23, 6-Leads, Body 2.90x1.60mm, Pitch 0.95mm, IPC Low Density)
pins: 1 VOUT (power), 2 GND (power), 3 ENABLE (in), 4 CPUMP-, 5 VIN (power), 6 CPUMP+